# Altium footprint library capacitor.PcbLib: 8 footprints
Each footprint in its own frame and in the unit in brackets; x right, y up, seen from the top. Pads: shape width x height; smd on the part's side, far side on the other; paste and mask are expansions set on the pad; w line width, h text height; cw(c..) or ccw(c..) is an arc to the next point about the centre after c.
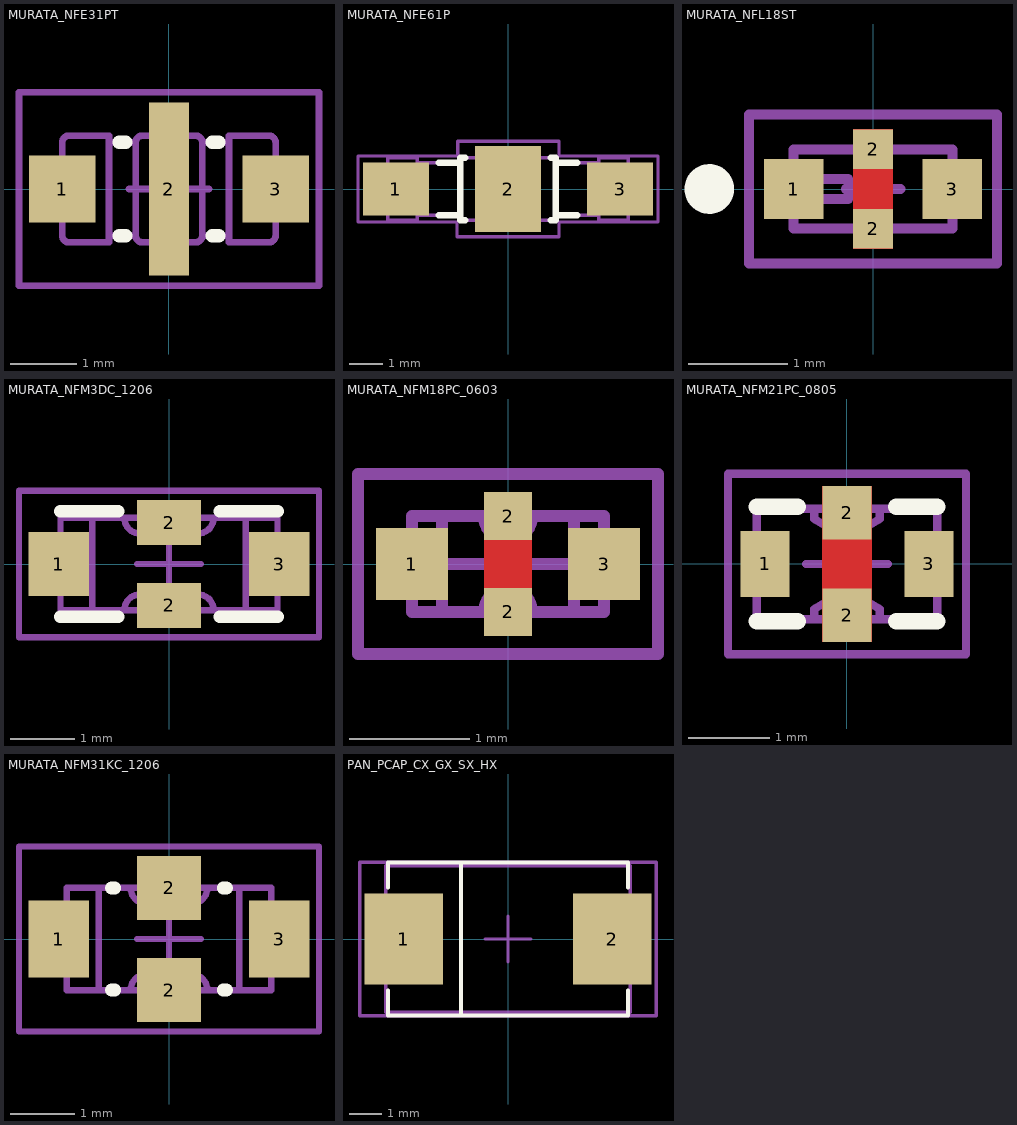
[diagram p0: the footprints below, top view; thin cyan lines are the x and y axes]

## MURATA_NFE31PT [mm] "6A EMIFIL LC Combined Type for Large Current"
height 1.75
pads (3):
  rect 1x1 smd: 1(-1.6,0) 3(1.6,0)
  rect 0.6x2.6 smd: 2(0,0)
Top Overlay:
  lines w0.2: -0.75,-0.7 -0.65,-0.7 ; -0.75,0.7 -0.65,0.7 ; 0.65,-0.7 0.75,-0.7 ; 0.65,0.7 0.75,0.7
Mechanical 1:
  lines w0.1: -0.9,-0.7 -0.5,-0.7 ; -0.9,0.7 -0.5,0.7 ; 0.9,-0.7 0.5,-0.7 ; 0.9,0.7 0.5,0.7 ; -0.5,-0.7 ccw(c-0.4,-0.7) -0.4,-0.8 0.4,-0.8 ccw(c0.4,-0.7) 0.5,-0.7 ; -0.5,-0.7 -0.5,0.7 ; -0.5,0.7 cw(c-0.4,0.7) -0.4,0.8 0.4,0.8 cw(c0.4,0.7) 0.5,0.7 ; 0.5,-0.7 0.5,0.7 ; -1.6,-0.7 ccw(c-1.5,-0.7) -1.5,-0.8 -0.9,-0.8 -0.9,0.8 -1.5,0.8 ccw(c-1.5,0.7) -1.6,0.7 -1.6,-0.7 ; 0.9,-0.8 1.5,-0.8 ccw(c1.5,-0.7) 1.6,-0.7 1.6,0.7 ccw(c1.5,0.7) 1.5,0.8 0.9,0.8 0.9,-0.8
Mechanical 15:
  lines w0.1: -0.6,0 0,0 ; 0,-0.6 0,0 ; 0,0.6 0,0 ; 0.6,0 0,0 ; -2.25,-1.45 2.251,-1.45 2.251,1.45 -2.25,1.45 -2.25,-1.45
3D body "CAPC_MURATA_NFE31PT.stp": height 1.6, standoff 0, extent -1.6,-0.8 1.6,0.8

## MURATA_NFE61P [mm] "EMI Filter, Body 6.8mm X 1.6mm, MURATA NFE61P Serie"
height 1.9
pads (3):
  rect 2x1.6 smd: 1(-3.4,0) 3(3.4,0)
  rect 2x2.6 smd: 2(0,0)
Top Overlay:
  lines w0.2: -2.1,-0.8 -1.45,-0.8 ; -2.1,0.8 -1.45,0.8 ; -1.3,-0.95 -1.45,-0.95 -1.45,0.95 -1.3,0.95 ; 1.3,-0.95 1.45,-0.95 1.45,0.95 1.3,0.95 ; 1.45,-0.8 2.1,-0.8 ; 1.45,0.8 2.1,0.8
Mechanical 1:
  lines w0.1: -2.75,-0.8 -1.45,-0.8 ; -2.75,0.8 -1.45,0.8 ; 1.45,-0.8 2.75,-0.8 ; 1.45,0.8 2.75,0.8 ; -3.65,-0.95 -2.75,-0.95 -2.75,0.95 -3.65,0.95 -3.65,-0.95 ; -1.45,-0.95 -1.45,0.95 1.45,0.95 1.45,-0.95 -1.45,-0.95 ; 2.75,-0.95 3.65,-0.95 3.65,0.95 2.75,0.95 2.75,-0.95
Mechanical 15:
  lines w0.1: -0.5,0 0,0 ; 0,-0.5 0,0 ; 0,0.5 0,0 ; 0.5,0 0,0 ; -4.55,-1 -1.55,-1 -1.55,-1.45 1.55,-1.45 1.55,-1 4.55,-1 4.55,1 1.55,1 1.55,1.45 -1.525,1.45 -1.525,1 -4.55,1 -4.55,-1
3D body "CAPC_MURATA_NFE61P.stp": height 1.9, standoff 0, extent -3.65,-0.95 3.65,0.95

## MURATA_NFL18ST [mm] "EMIFIL Chip Capacitor, Body 1.6x0.8mm, MURATA NFL18ST Series"
height 0.7
pads (4):
  rect 0.6x0.6 smd: 1(-0.8,0) 3(0.8,0)
  rect 0.4x0.4 smd: 2(0,-0.4) 2(0,0.4)
Top Layer:
  region: -0.2,0.6 -0.2,-0.6 0.2,-0.6 0.2,0.6
Top Overlay:
  circle w0.25: c-1.65,0 r0.125
Mechanical 1:
  lines w0.1: -0.8,-0.4 -0.8,0.4 0.8,0.4 0.8,-0.4 -0.8,-0.4 ; -0.575,-0.1 -0.25,-0.1 -0.25,0.1 -0.575,0.1 -0.575,-0.1
Mechanical 15:
  lines w0.1: -0.275,0 0,0 ; 0,-0.275 0,0 ; 0,0.275 0,0 ; 0.275,0 0,0 ; -1.25,-0.75 1.25,-0.75 1.25,0.75 -1.25,0.75 -1.25,-0.75
3D body "CAPC_MURATA_NFL18ST.stp": height 0.7, standoff 0, extent -0.8,-0.4 0.8,0.4

## MURATA_NFM3DC_1206 [mm] "EMIFIL Chip Capacitor, Body 3.2x1.25mm, MURATA NFM3DC Serie"
height 0.9
pads (4):
  rect 0.95x1 smd: 1(-1.725,0) 3(1.725,0)
  rect 1x0.7 smd: 2(0,-0.65) 2(0,0.65)
Top Overlay:
  lines w0.2: -1.7,-0.825 -0.8,-0.825 ; -1.7,0.825 -0.8,0.825 ; 0.8,-0.825 1.7,-0.825 ; 0.8,0.825 1.7,0.825
Mechanical 1:
  lines w0.1: -1.2,-0.725 -1.2,0.725 ; -0.7,-0.725 cw(c-0.45,-0.725) -0.45,-0.475 0.45,-0.475 cw(c0.45,-0.725) 0.7,-0.725 ; -0.7,0.725 ccw(c-0.45,0.725) -0.45,0.475 0.45,0.475 ccw(c0.45,0.725) 0.7,0.725 ; 1.2,-0.725 1.2,0.725 ; -1.7,-0.725 -1.7,0.725 1.7,0.725 1.7,-0.725 -1.7,-0.725
Mechanical 15:
  lines w0.1: -0.5,0 0,0 ; 0,-0.5 0,0 ; 0,0.5 0,0 ; 0.5,0 0,0 ; -2.35,-1.15 -2.35,1.15 2.35,1.15 2.35,-1.15 -2.35,-1.15
3D body "CAPC_MURATA_NFM3DC_1206.stp": height 0.9, standoff 0, extent -1.7,-0.725 1.7,0.725

## MURATA_NFM18PC_0603 [mm] "EMIFIL Chip Capacitor, Body 1.6x0.8mm, MURATA NFM18PC Serie"
height 0.7
pads (4):
  rect 0.6x0.6 smd: 1(-0.8,0) 3(0.8,0)
  rect 0.4x0.4 smd: 2(0,-0.4) 2(0,0.4)
Top Layer:
  region: -0.2,0.6 0.2,0.6 0.2,-0.6 -0.2,-0.6
Mechanical 1:
  lines w0.1: -0.55,-0.4 -0.55,0.4 ; -0.2,-0.4 cw(c0,-0.4) 0.2,-0.4 ; -0.2,0.4 ccw(c0,0.4) 0.2,0.4 ; 0.55,-0.4 0.55,0.4 ; -0.8,-0.4 0.8,-0.4 0.8,0.4 -0.8,0.4 -0.8,-0.4
Mechanical 15:
  lines w0.1: -0.5,0 0,0 ; 0,-0.5 0,0 ; 0,0.5 0,0 ; 0.5,0 0,0 ; -1.25,-0.75 -1.25,0.75 1.25,0.75 1.25,-0.75 -1.25,-0.75
3D body "CAPC_MURATA_NFM18PC_0603.stp": height 0.7, standoff 0, extent -0.8,-0.4 0.8,0.4

## MURATA_NFM21PC_0805 [mm] "EMIFIL Chip Capacitor, Body 2.0x1.25mm, MURATA NFM21PC Serie"
height 0.95
pads (4):
  rect 0.6x0.8 smd: 1(-1,0) 3(1,0)
  rect 0.6x0.65 smd: 2(0,-0.625) 2(0,0.625)
Top Layer:
  region: -0.3,0.95 0.3,0.95 0.3,-0.95 -0.3,-0.95
Top Overlay:
  lines w0.2: -1.1,-0.7 -0.6,-0.7 ; -1.1,0.7 -0.6,0.7 ; 0.6,-0.7 1.1,-0.7 ; 0.6,0.7 1.1,0.7
Mechanical 1:
  lines w0.1: -1.1,-0.675 -1.1,0.675 1.1,0.675 1.1,-0.675 -1.1,-0.675 ; -0.4,-0.675 -0.4,-0.55 cw(c0,-1.128) 0.4,-0.55 0.4,-0.675 -0.4,-0.675 ; -0.4,0.55 ccw(c0,1.128) 0.4,0.55 0.4,0.675 -0.4,0.675 -0.4,0.55
Mechanical 15:
  lines w0.1: -0.5,0 0,0 ; 0,-0.5 0,0 ; 0,0.5 0,0 ; 0.5,0 0,0 ; -1.45,-1.1 -1.45,1.1 1.45,1.1 1.45,-1.1 -1.45,-1.1
3D body "CAPC_MURATA_NFM21PC_0805.stp": height 0.95, standoff 0, extent -1.1,-0.675 1.1,0.675

## MURATA_NFM31KC_1206 [mm] "EMIFIL Chip Capacitor, Body 3.2x1.6mm, MURATA NFM31KC Serie"
height 1.5
pads (4):
  rect 0.95x1.2 smd: 1(-1.725,0) 3(1.725,0)
  rect 1x1 smd: 2(0,-0.8) 2(0,0.8)
Top Overlay:
  lines w0.2: -0.9,-0.8 -0.85,-0.8 ; -0.9,0.8 -0.85,0.8 ; 0.85,-0.8 0.9,-0.8 ; 0.85,0.8 0.9,0.8
Mechanical 1:
  lines w0.1: -1.1,-0.8 -1.1,0.8 ; -0.6,-0.8 cw(c-0.35,-0.8) -0.35,-0.55 0.35,-0.55 cw(c0.35,-0.8) 0.6,-0.8 ; -0.6,0.8 ccw(c-0.35,0.8) -0.35,0.55 0.35,0.55 ccw(c0.35,0.8) 0.6,0.8 ; 1.1,-0.8 1.1,0.8 ; -1.6,-0.8 -1.6,0.8 1.6,0.8 1.6,-0.8 -1.6,-0.8
Mechanical 15:
  lines w0.1: -0.5,0 0,0 ; 0,-0.5 0,0 ; 0,0.5 0,0 ; 0.5,0 0,0 ; -2.35,-1.45 -2.35,1.45 2.35,1.45 2.35,-1.45 -2.35,-1.45
3D body "CAPC_MURATA_NFM31KC_1206.stp": height 1.5, standoff 0, extent -1.6,-0.805 1.6,0.805

## PAN_PCAP_CX_GX_SX_HX [mm]
pads (2):
  rect 2.4x2.8 smd: 1(-3.2,0) 2(3.2,0)
Top Overlay:
  lines w0.127: -3.675,-1.575 -3.675,-2.35 3.675,-2.35 3.675,-1.575 ; -3.675,1.575 -3.675,2.35 3.675,2.35 3.675,1.575 ; -1.444,-2.325 -1.444,2.325
Mechanical 1:
  lines w0.1: -1.45,-2.25 -1.45,2.25 ; -3.75,-2.25 3.75,-2.25 3.75,2.25 -3.75,2.25 -3.75,-2.25
Mechanical 15:
  lines w0.1: -0.7,-0.001 0.7,0 ; 0.001,0.697 0.002,-0.703 ; -4.55,-2.35 -4.55,2.35 4.55,2.35 4.55,-2.35 -4.55,-2.35
3D body "PCAP_EEF_CX_PAN.step": height 2.16, standoff 0, extent -3.746,-2.248 3.746,2.248